# EAGLE library part LTC4366 (library Public)
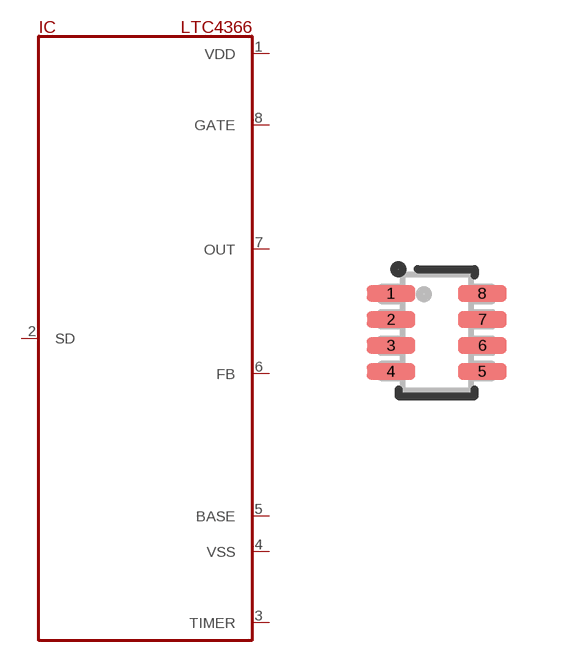
[diagram p114: symbol with the pads of SOT23-8; footprint SOT23-8]

Designator prefix IC

## LTC4366  [SOT23-8]
1  VDD
2  SD
3  TIMER
4  VSS
5  BASE
6  FB
7  OUT
8  GATE

## Footprint SOT23-8 (pad centres in mm)
smd 1.219 x 0.406: 1 -1.143,0.975; 2 -1.143,0.325; 3 -1.143,-0.325; 4 -1.143,-0.975; 5 1.143,-0.975; 6 1.143,-0.325; 7 1.143,0.325; 8 1.143,0.975